# Altium footprint library Con FPC-FFC.PcbLib: 52 footprints (part 4 of 4)
Each footprint in its own frame and in the unit in brackets; x right, y up, seen from the top. Pads: shape width x height; smd on the part's side, far side on the other; paste and mask are expansions set on the pad; w line width, h text height; cw(c..) or ccw(c..) is an arc to the next point about the centre after c.
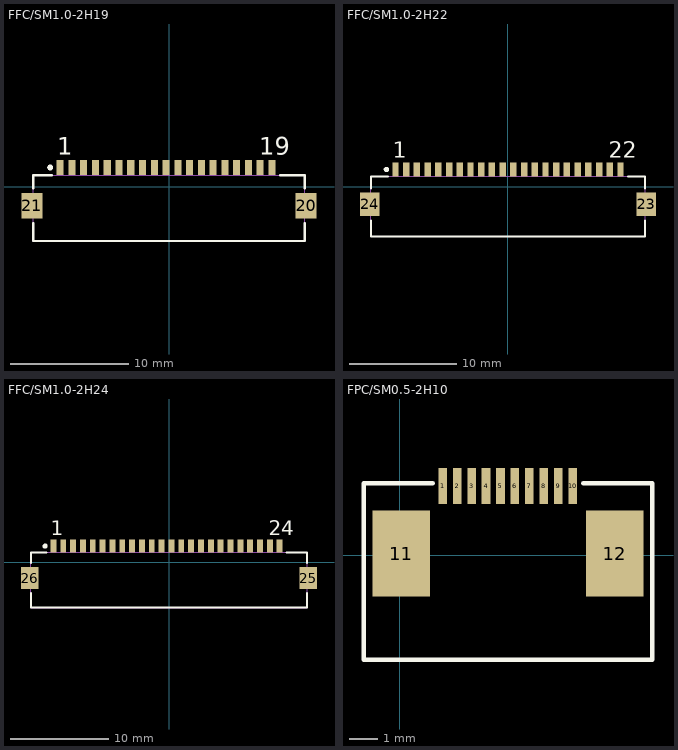
[diagram p3: the footprints below, top view; thin cyan lines are the x and y axes]

## FFC/SM1.0-2H19 [mm] "Connector; FH12 Series; 19 Position; 1.0mm Spaced Bottom Eccentric Contact"
height 2
pads (21):
  rect 0.6x1.3 smd: 1(-9.25,1.625) 2(-8.25,1.625) 3(-7.25,1.625) 4(-6.25,1.625) 5(-5.25,1.625) 6(-4.25,1.625) 7(-3.25,1.625) 8(-2.25,1.625) 9(-1.25,1.625) 10(-0.25,1.625) 11(0.75,1.625) 12(1.75,1.625) 13(2.75,1.625) 14(3.75,1.625) 15(4.75,1.625) 16(5.75,1.625) 17(6.75,1.625) 18(7.75,1.625) 19(8.75,1.625)
  rect 1.8x2.2 smd: 20(11.65,-1.625) 21(-11.65,-1.625)
Top Overlay:
  circle w0.25: c-10.1,1.625 r0.125
  lines w0.2: -11.55,-3.125 -11.55,-4.625 11.55,-4.625 11.55,-3.125 ; -11.55,-0.125 -11.55,0.975 -9.95,0.975 ; 9.45,0.975 11.55,0.975 11.55,-0.125
  text "1" at -9.5,2.725 h1.5
  text "19" at 7.65,2.725 h1.5
Mechanical 13:
  lines w0.1: -11.55,-4.625 -11.55,0.975 11.55,0.975 11.55,-4.625 -11.55,-4.625
3D body: height 2, standoff 0, extent -11.55,-4.625 11.55,0.975

## FFC/SM1.0-2H22 [mm] "Connector; FH12 Series; 22 Position; 1.0mm Spaced Bottom Standard Contact"
height 2
pads (24):
  rect 0.6x1.3 smd: 1(-10.5,1.625) 2(-9.5,1.625) 3(-8.5,1.625) 4(-7.5,1.625) 5(-6.5,1.625) 6(-5.5,1.625) 7(-4.5,1.625) 8(-3.5,1.625) 9(-2.5,1.625) 10(-1.5,1.625) 11(-0.5,1.625) 12(0.5,1.625) 13(1.5,1.625) 14(2.5,1.625) 15(3.5,1.625) 16(4.5,1.625) 17(5.5,1.625) 18(6.5,1.625) 19(7.5,1.625) 20(8.5,1.625) 21(9.5,1.625) 22(10.5,1.625)
  rect 1.8x2.2 smd: 23(12.9,-1.625) 24(-12.9,-1.625)
Top Overlay:
  circle w0.25: c-11.35,1.625 r0.125
  lines w0.2: -12.8,-3.125 -12.8,-4.625 12.8,-4.625 12.8,-3.125 ; -12.8,-0.125 -12.8,0.975 -11.2,0.975 ; 11.2,0.975 12.8,0.975 12.8,-0.125
  text "22" at 9.4,2.725 h1.5
  text "1" at -10.75,2.725 h1.5
Mechanical 13:
  lines w0.1: -12.8,-4.625 12.8,-4.625 12.8,0.975 -12.8,0.975 -12.8,-4.625
3D body: height 2, standoff 0, extent -12.8,-4.625 12.8,0.975

## FFC/SM1.0-2H24 [mm] "Connector; FH12 Series; 24 Position; 1.0mm Spaced Bottom Eccentric Contact"
height 2
pads (26):
  rect 0.6x1.3 smd: 1(-11.75,1.625) 2(-10.75,1.625) 3(-9.75,1.625) 4(-8.75,1.625) 5(-7.75,1.625) 6(-6.75,1.625) 7(-5.75,1.625) 8(-4.75,1.625) 9(-3.75,1.625) 10(-2.75,1.625) 11(-1.75,1.625) 12(-0.75,1.625) 13(0.25,1.625) 14(1.25,1.625) 15(2.25,1.625) 16(3.25,1.625) 17(4.25,1.625) 18(5.25,1.625) 19(6.25,1.625) 20(7.25,1.625) 21(8.25,1.625) 22(9.25,1.625) 23(10.25,1.625) 24(11.25,1.625)
  rect 1.8x2.2 smd: 25(14.15,-1.625) 26(-14.15,-1.625)
Top Overlay:
  circle w0.25: c-12.6,1.625 r0.125
  lines w0.2: -14.05,-3.125 -14.05,-4.625 14.05,-4.625 14.05,-3.125 ; -14.05,-0.125 -14.05,0.975 -12.45,0.975 ; 11.95,0.975 14.05,0.975 14.05,-0.125
  text "24" at 10.15,2.725 h1.5
  text "1" at -12,2.725 h1.5
Mechanical 13:
  lines w0.1: -14.05,-4.625 -14.05,0.975 14.05,0.975 14.05,-4.625 -14.05,-4.625
3D body: height 2, standoff 0, extent -14.05,-4.625 14.05,0.975

## FPC/SM0.5-2H10 [mm] "connector"
height 2.5
pads (12):
  rect 0.3x1.25 smd: 1(1.5,2.4) 2(2.003,2.4) 3(2.506,2.4) 4(3.01,2.4) 5(3.513,2.4) 6(4.016,2.4) 7(4.519,2.4) 8(5.022,2.4) 9(5.526,2.4) 10(6.029,2.4)
  rect 2x3 smd: 11(0.05,0.05) 12(7.5,0.05)
Top Overlay:
  lines w0.15: 1.15,2.5 -1.25,2.5 -1.25,1.05 -1.25,-3.65 8.8,-3.65 8.8,0.7 8.8,2.5 6.4,2.5
3D body: height 2.5, standoff 0, extent -1.175,-3.45 8.875,1.65
3D body: height 0.25, standoff 0, extent 3.6,-1.35 3.6,-1.35
3D body: height 0.25, standoff 0, extent 3,-1.55 3,-1.55
3D body: height 0.25, standoff 0, extent -6,3.45 -6,3.45
3D body: height 0.25, standoff 0, extent 0,0 0,0
3D body: height 0.25, standoff 0, extent 4.15,-2.2 4.15,-2.2